# Altium footprint library WSON-6_0.PcbLib: 1 footprints
Each footprint in its own frame and in the unit in brackets; x right, y up, seen from the top. Pads: shape width x height; smd on the part's side, far side on the other; paste and mask are expansions set on the pad; w line width, h text height; cw(c..) or ccw(c..) is an arc to the next point about the centre after c.
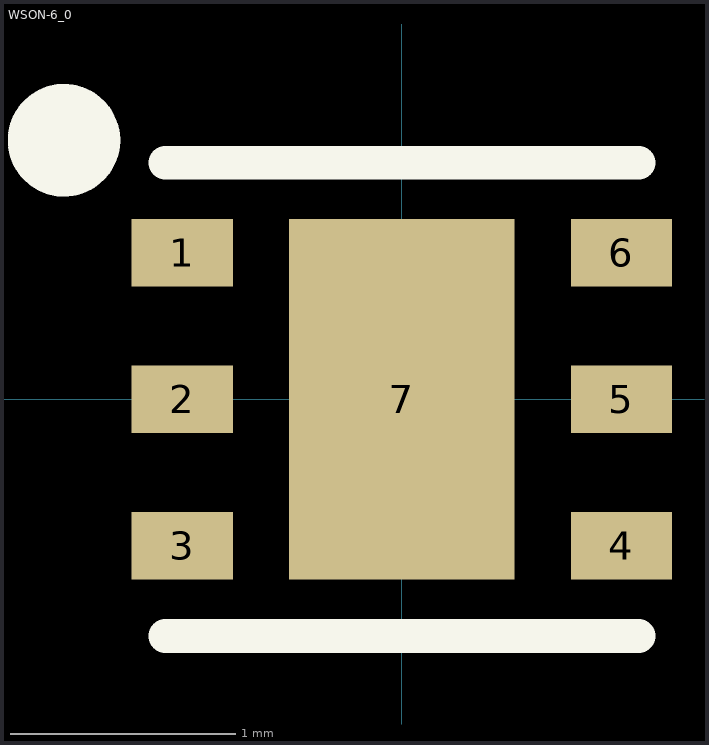
[diagram p0: the footprint, top view; thin cyan lines are the x and y axes]

## WSON-6_0 [mm]
pads (7):
  rect 0.45x0.3 smd mask+0.06: 1(-0.975,0.65) 2(-0.975,0) 3(-0.975,-0.65) 4(0.975,-0.65) 5(0.975,0) 6(0.975,0.65)
  rect 1x1.6 smd mask+0.06: 7(0,0)
Top Overlay:
  circle w0.25: c-1.5,1.15 r0.125
  lines w0.15: -1.05,-1.05 1.05,-1.05 ; -1.05,1.05 1.05,1.05
3D body: height 0.8, standoff 0, extent -1.05,-1.05 1.05,1.05